# Altium schematic symbol library FPGAboard.SchLib: 46 symbols (part 1 of 2)
Pins are listed as number, name and electrical type; pins without a type are passive.

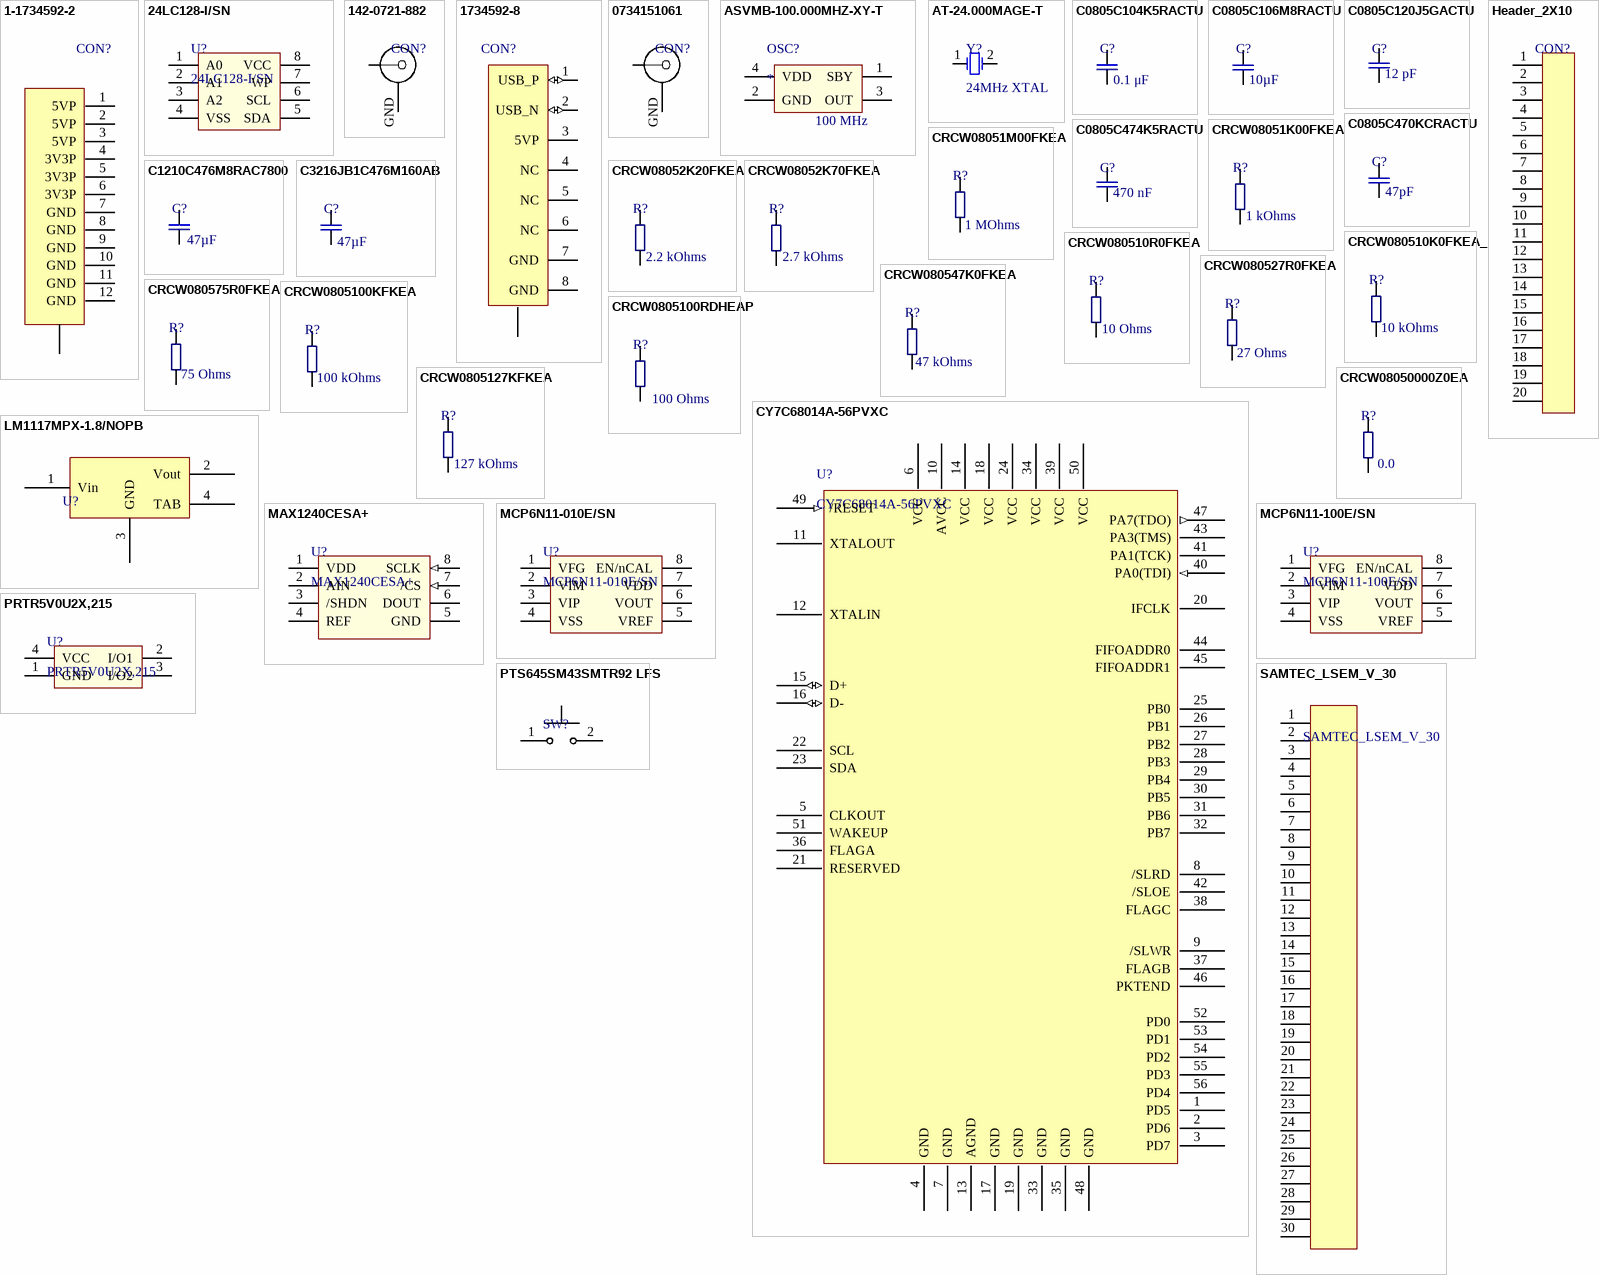
[diagram p0: symbols 1-1734592-2 to SAMTEC_LSEM_V_30]

## 1-1734592-2
designator CON?, comment el connector no está en la lista de suppliers en cantidades unitarias pero Digikey lo tiene  (value not drawn)
Power connector; Supplier Part Number 1: ​A100283CT-ND; Supplier 1: Digikey
footprint 1-1734592-2 (FPC-style ribbon connector)
pins: 1 5VP (power), 2 5VP (power), 3 5VP (power), 4 3V3P (power), 5 3V3P (power), 6 3V3P (power), 7 GND (power), 8 GND (power), 9 GND (power), 10 GND (power), 11 GND (power), 12 GND (power), GND (power)

## 24LC128-I/SN
designator U?
EEPROM Memory IC 128Kb (16K x 8) I²C 900ns 8-SOIC; Manufacturer: Microchip Technology; Memory Size: 128Kbit; EEPROM Memory Configuration: 16K x 8bit; Clock Frequency: 400kHz; Supply Voltage Min: 2.5V; Supply Voltage Max: 5.5V; Memory Case Style: SOIC; No. of Pins: 8; IC Interface Type: 2 Wire, I2C, Serial; SVHC: No SVHC (16-Jun-2014); Supplier 1: Digikey; Manufacturer Part Number: 24LC128-I/SN; Stock 1: 13753; Pricing 1: 1=0.56, 25=0.5356, 100=0.515 (USD); Operating Temperature Min: -40°C; Operating Temperature Max: 85°C; Packaging: Each; MSL: MSL 1 - Unlimited; ComponentLink1URL: https://datasheet.ciiva.com/14134/vl24lc128xx-e-14134817.pdf; ComponentLink1Description: https://datasheet.ciiva.com/14134/vl24lc128xx-e-14134817.pdf; ComponentLink2URL: https://datasheet.ciiva.com/20167/73-3656-20167716.pdf; ComponentLink2Description: https://datasheet.ciiva.com/20167/73-3656-20167716.pdf; ComponentLink3URL: https://datasheet.ciiva.com/16304/filehandler-aspxddocname-en011851-16304537.pdf; ComponentLink3Description: https://datasheet.ciiva.com/16304/filehandler-aspxddocname-en011851-16304537.pdf; ComponentLink4URL: https://datasheet.ciiva.com/1155/1688094-1155162.pdf; ComponentLink4Description: https://datasheet.ciiva.com/1155/1688094-1155162.pdf; ComponentLink5URL: https://datasheet.ciiva.com/4859/21191m-72643-4859610.pdf; ComponentLink5Description: https://datasheet.ciiva.com/4859/21191m-72643-4859610.pdf; ComponentLink6URL: https://datasheet.ciiva.com/16922/70045236-16922202.pdf; ComponentLink6Description: https://datasheet.ciiva.com/16922/70045236-16922202.pdf; ComponentLink7URL: https://datasheet.ciiva.com/17651/21191s-17651243.pdf; ComponentLink7Description: https://datasheet.ciiva.com/17651/21191s-17651243.pdf; Supplier Part Number 1: 24LC128-I/SN-ND
pins: 1 A0, 2 A1, 3 A2, 4 VSS, 5 SDA, 6 SCL, 7 WP, 8 VCC

## 142-0721-882
designator CON?  (value not drawn)
CONN SMA JACK STR 50OHM EDGE MNT; Manufacturer: Bel Stewart / Cinch Connectivity / Johnson; Manufacturer Part Number: 142-0721-882; Featured Product: SMA Connectors Connectivity Solutions; Connector Type: Jack, Female Socket; Contact Termination: Solder; Frequency - Max: 18GHz; Body Material: Brass; Body Finish: Gold; Center Contact Material: Beryllium Copper; Dielectric Material: Polytetrafluoroethylene (PTFE); Voltage Rating: 335V; Other Names: 142-0721-882-ND  J10225TR; Supplier 1: Digikey; Stock 1: 0; Pricing 1: 1=3.26, 25=3.0632 (USD); Standard Package: 475; Category: Connectors, Interconnects; Family: Coaxial Connectors (RF); Series: -; Packaging: Tape &amp; Reel (TR); Connector Style: SMA; Shield Termination: Solder; Impedance: 50 Ohm; Mounting Type: Board Edge, Cutout; Cable Group: -; Fastening Type: Threaded; Features: -; Housing Color: Gold; Ingress Protection: -; Center Contact Plating: Gold; Operating Temperature: -65°C ~ 165°C; Online Catalog: SMA; ComponentLink1URL: https://cinchconnectivity.com/OA_MEDIA/drawings/dr-1420721882.pdf; ComponentLink1Description: https://cinchconnectivity.com/OA_MEDIA/drawings/dr-1420721882.pdf; ComponentLink2URL: https://cinchconnectivity.com/OA_HTML/ibeCCtpItmDspRte.jsp?item=4250478; ComponentLink2Description: https://cinchconnectivity.com/OA_HTML/ibeCCtpItmDspRte.jsp?item=4250478; Supplier Part Number 1: J10225CT-ND
footprint SMA (Surface mount SMA)
pins: GND, IN

## 1734592-8
designator CON?
Supplier Part Number 1: ​A100281CT-ND; Supplier 1: Digikey
footprint 1734592-8
pins: 1 USB_P (io), 2 USB_N (io), 3 5VP (power), 4 NC, 5 NC, 6 NC, 7 GND (power), 8 GND (power), GND (power)

## 0734151061
designator CON?
CONN MCX RCPT STR 50OHM EDGE MNT; Manufacturer: Molex; Manufacturer Part Number: 0734151061; Featured Product: MCX RF Connectors; Connector Type: Receptacle, Female Socket; Contact Termination: Solder; Frequency - Max: 6GHz; Body Material: Brass; Body Finish: Gold; Center Contact Material: Beryllium Copper; Dielectric Material: Polytetrafluoroethylene (PTFE); Voltage Rating: 335V; Online Catalog: MCX, 73366 and 73415 Series; Other Names: 0734-15-1061  073415-1061  0734151061-ND  73415-1061  734151061  WM9351-2-ND  WM9351TR; Supplier 1: Digi-Key; Stock 1: 18986; Pricing 1: 1=5.45, 10=5.23, 25=4.7944, 50=4.5764, 100=4.3584, 250=3.8136, 500=3.7047 (USD); RoHS Information: 0734151061 Cert of Compliance; Standard Package: 1,000; Category: Connectors, Interconnects; Family: Coaxial Connectors (RF); Series: 73415; Packaging: Tape & Reel (TR); Connector Style: MCX; Shield Termination: Solder; Impedance: 50 Ohm; Mounting Type: Board Edge, Cutout; Cable Group: -; Fastening Type: Snap-On; Features: -; Housing Color: Gold; Ingress Protection: -; Center Contact Plating: Gold; Operating Temperature: -55°C ~ 155°C; ComponentLink1URL: https://datasheet.ciiva.com/7002/0734151061-rf-coax-connectors-7002503.pdf; ComponentLink1Description: https://datasheet.ciiva.com/7002/0734151061-rf-coax-connectors-7002503.pdf; ComponentLink2URL: https://datasheet.ciiva.com/7002/0734151061-rf-coax-connectors-7002509.pdf; ComponentLink2Description: https://datasheet.ciiva.com/7002/0734151061-rf-coax-connectors-7002509.pdf; Supplier Part Number 1: WM9351CT-ND
footprint MCX (CONN MCX RCPT STR 50OHM EDGE MNT)
pins: GND, IN

## ASVMB-100.000MHZ-XY-T
designator OSC?  Standard Frequency: 100 MHz
Manufacturer: Abracon; Manufacturer Part Number: ASVMB-100.000MHZ-XY-T; Rad Hard: No; Frequency Stability: ±10 ppm; Load Capacitance: 15 pF; Supplier 1: Digikey; Stock 1: 1752; Pricing 1: 1=2.51, 10=2.449, 50=2.332, 100=2.0405, 500=1.9822 (USD); Packaging: Tape & Reel; Package: 4QFN EP; Type: Silicon Oscillator; Category: SMD Crystal Oscillator; ComponentLink1URL: https://datasheet.ciiva.com/13167/asvmb-35165-13167142.pdf; ComponentLink1Description: https://datasheet.ciiva.com/13167/asvmb-35165-13167142.pdf; ComponentLink2URL: https://datasheet.ciiva.com/866/asvmb-866791.pdf; ComponentLink2Description: https://datasheet.ciiva.com/866/asvmb-866791.pdf; ComponentLink3URL: https://datasheet.ciiva.com/866/asvmb-866792.pdf; ComponentLink3Description: https://datasheet.ciiva.com/866/asvmb-866792.pdf; ComponentLink4URL: https://datasheet.ciiva.com/866/asvmb-866793.pdf; ComponentLink4Description: https://datasheet.ciiva.com/866/asvmb-866793.pdf; Supplier Part Number 1: 535-11246-1-ND
footprint ASVMB-100.000MHZ-XY-T
pins: 1 SBY, 2 GND (power), 3 OUT, 4 VDD (power)

## AT-24.000MAGE-T
designator Y?, comment 24MHz XTAL
24MHz ±30ppm Crystal 12pF 50 Ohm -40°C ~ 85°C AEC-Q200 Surface Mount HC49/US; Manufacturer: TXC; Manufacturer Part Number: AT-24.000MAGE-T; Frequency Stability: ±50ppm; ESR (Equivalent Series Resistance): 50 Ohm; Operating Mode: Fundamental; Online Catalog: AT Series; Other Names: 887-1613-6; Supplier 1: Digikey; Stock 1: 380; Pricing 1: 1=0.66, 10=0.55, 50=0.495, 100=0.44, 500=0.418 (USD); Standard Package: 1; Category: Crystals and Oscillators; Family: Crystals; Series: AT; Packaging: Digi-Reel®; Type: MHz Crystal; Frequency: 24MHz; Frequency Tolerance: ±30ppm; Load Capacitance: 12pF; Operating Temperature: -40°C ~ 85°C; Ratings: AEC-Q200; Mounting Type: Surface Mount; Package / Case: HC49/US; Size / Dimension: 0.449" L x 0.189" W (11.40mm x 4.80mm); Height: 0.161" (4.10mm); ComponentLink1URL: https://datasheet.ciiva.com/4946/at-automotive-3382-4946832.pdf; ComponentLink1Description: https://datasheet.ciiva.com/4946/at-automotive-3382-4946832.pdf; ComponentLink2URL: https://datasheet.ciiva.com/8047/1639142-8047989.pdf; ComponentLink2Description: https://datasheet.ciiva.com/8047/1639142-8047989.pdf; ComponentLink3URL: https://datasheet.ciiva.com/6728/at-automotive-6728858.pdf; ComponentLink3Description: https://datasheet.ciiva.com/6728/at-automotive-6728858.pdf; ComponentLink4URL: https://datasheet.ciiva.com/6728/at-automotive-6728859.pdf; ComponentLink4Description: https://datasheet.ciiva.com/6728/at-automotive-6728859.pdf; ComponentLink5URL: https://datasheet.ciiva.com/6728/at-automotive-6728860.pdf; ComponentLink5Description: https://datasheet.ciiva.com/6728/at-automotive-6728860.pdf; Supplier Part Number 1: 887-1613-1-ND
footprint HC-49S SMD 9C Series
simulation model XTAL (Spice Subcircuit)
pins: 1 OSC1, 2 OSC2

## C0805C104K5RACTU
designator C?  Capacitance: 0.1 μF
Manufacturer: Kemet; Manufacturer Part Number: C0805C104K5RAC-TU; Brand/Series: C Series; Dielectric Characteristic: X7R; Material, Element: Ceramic; Tolerance: -10, +10 %; Voltage, Rating: 50 VDC; Supplier 1: Digikey; Stock 1: 2895664; Pricing 1: 1=0.1, 10=0.053, 25=0.0388, 50=0.029, 100=0.0237, 250=0.0198, 500=0.0169, 1000=0.0133 (USD); Case Size: 0805 (2012 mm); Dimensions: 0.079" x 0.049" (2 x 1.25mm) LxW; Mounting Type: PCB; Packaging: Cut Tape; Termination: SMD; ComponentLink1URL: https://datasheet.ciiva.com/14589/70095383-14589048.pdf; ComponentLink1Description: https://datasheet.ciiva.com/14589/70095383-14589048.pdf; ComponentLink2URL: https://datasheet.ciiva.com/28682/1851736-28682232.pdf; ComponentLink2Description: https://datasheet.ciiva.com/28682/1851736-28682232.pdf; ComponentLink3URL: https://datasheet.ciiva.com/7842/1851736-7842539.pdf; ComponentLink3Description: https://datasheet.ciiva.com/7842/1851736-7842539.pdf; ComponentLink4URL: https://datasheet.ciiva.com/32431/slceramic-chip-condensers-e-32431755.pdf; ComponentLink4Description: https://datasheet.ciiva.com/32431/slceramic-chip-condensers-e-32431755.pdf; ComponentLink5URL: https://datasheet.ciiva.com/18410/70095383-18410815.pdf; ComponentLink5Description: https://datasheet.ciiva.com/18410/70095383-18410815.pdf; Supplier Part Number 1: 399-1170-1-ND
footprint 0805_X7R_KEMET
pins: 1, 2

## C0805C106M8RACTU
designator C?  Capacitance: 10µF  (hidden comment: C0805C106M8RACTU)
Manufacturer: Kemet; Capacitance Tolerance: ± 20%; Capacitor Case Style: 0805 [2012 Metric]; Dielectric Characteristic: X7R; Product Range: KEMET - C Series; SVHC: No SVHC (16-Jun-2014); Voltage Rating: 10V; Supplier 1: Digikey; Manufacturer Part Number: C0805C106M8RACTU; Stock 1: 17950; Pricing 1: 1=0.52, 10=0.362, 25=0.2972, 50=0.2536, 100=0.2174, 250=0.1811, 500=0.163, 1000=0.1377 (USD); Ceramic Capacitor Case: 0805 [2012 Metric]; MSL: MSL 1 - Unlimited; Operating Temperature Max: 125°C; Operating Temperature Min: -55°C; Packaging: Tape & Reel; ComponentLink1URL: https://datasheet.ciiva.com/5408/kem-c1002-x7r-smd-5408794.pdf; ComponentLink1Description: https://datasheet.ciiva.com/5408/kem-c1002-x7r-smd-5408794.pdf; Supplier Part Number 1: 399-7413-1-ND
footprint 0805_X7R_KEMET
pins: 1, 2

## C0805C120J5GACTU
designator C?  Capacitance: 12 pF
Manufacturer: KEMET; Manufacturer Part Number: C0805C120J5GACTU; Part # Aliases: C0805C120J5GAC7800; Case Height: 0.78 mm; Case Length: 2 mm; Dielectric: C0G (NP0); Case Width: 1.2 mm; Class: Class 1; Dissipation Factor DF: 0.1; Voltage Rating: 50 V; Tolerance: 5 %; Temperature Coefficient / Code: +/- 30 PPM / C; Type: SMD MLCC C0G 10 - 250 VDC Commercial Grade; Supplier 1: Digikey; Stock 1: 56795; Pricing 1: 1=0.12, 10=0.085, 100=0.0402, 500=0.0282, 1000=0.0233 (USD); Brand: Kemet; Case Code - in: 0805; Case Code - mm: 2012; Dimensions: 1.2 mm W x 2 mm L x 0.78 mm H; Lead Spacing: 0.75 mm; Factory Pack Quantity: 4000; Product Category: Multilayer Ceramic Capacitors MLCC - SMD/SMT; RoHS: Details; Voltage Rating DC: 50 V; Minimum Operating Temperature: - 55 C; Maximum Operating Temperature: + 125 C; Product: General Type MLCCs; Operating Temperature Range: - 55 C to + 125 C; Package / Case: 0805 (2012 metric); Packaging: Reel; Series: C0805C; Termination Style: SMD/SMT; ComponentLink1URL: https://datasheet.ciiva.com/144/docfinderpartnumber-c0805c120j5gactu-144980.pdf; ComponentLink1Description: https://datasheet.ciiva.com/144/docfinderpartnumber-c0805c120j5gactu-144980.pdf; ComponentLink2URL: https://datasheet.ciiva.com/11463/kem-c1003-c0g-smd-11463493.pdf; ComponentLink2Description: https://datasheet.ciiva.com/11463/kem-c1003-c0g-smd-11463493.pdf; ComponentLink3URL: https://datasheet.ciiva.com/18193/getdatasheetpartid-179336-18193526.pdf; ComponentLink3Description: https://datasheet.ciiva.com/18193/getdatasheetpartid-179336-18193526.pdf; ComponentLink4URL: https://datasheet.ciiva.com/5418/kem-c1003-c0g-smd-356956-5418089.pdf; ComponentLink4Description: https://datasheet.ciiva.com/5418/kem-c1003-c0g-smd-356956-5418089.pdf; ComponentLink5URL: https://datasheet.ciiva.com/6136/1732692-6136713.pdf; ComponentLink5Description: https://datasheet.ciiva.com/6136/1732692-6136713.pdf; ComponentLink6URL: https://datasheet.ciiva.com/7842/1732692-7842203.pdf; ComponentLink6Description: https://datasheet.ciiva.com/7842/1732692-7842203.pdf; ComponentLink7URL: https://datasheet.ciiva.com/7842/1732692-7842204.pdf; ComponentLink7Description: https://datasheet.ciiva.com/7842/1732692-7842204.pdf; ComponentLink8URL: https://datasheet.ciiva.com/14586/70095383-14586716.pdf; ComponentLink8Description: https://datasheet.ciiva.com/14586/70095383-14586716.pdf; ComponentLink9URL: https://datasheet.ciiva.com/28696/1789732-28696013.pdf; ComponentLink9Description: https://datasheet.ciiva.com/28696/1789732-28696013.pdf; Supplier Part Number 1: 399-1110-1-ND
footprint 0805_X7R_KEMET
pins: 1, 2

## C0805C470KCRACTU
designator C?  Capacitance: 47pF
Manufacturer: Kemet; Manufacturer Part Number: C0805C470KCRACTU; Product Training Modules: Capacitor Basics- Typical Uses for Capacitors; Tolerance: ±10%; Voltage - Rated: 500V; Temperature Coefficient: X7R; Online Catalog: X7R Dielectric High Voltage; Other Names: 399-7158-6; Supplier 1: Digikey; Stock 1: 5972; Pricing 1: 1=0.38, 10=0.266, 25=0.218, 50=0.186, 100=0.1594, 250=0.1328, 500=0.1195, 1000=0.101 (USD); Standard Package: 1; Category: Capacitors; Family: Ceramic Capacitors; Series: C; Packaging: Digi-Reel®; Mounting Type: Surface Mount, MLCC; Operating Temperature: -55°C ~ 125°C; Applications: SMPS Filtering; Ratings: -; Package / Case: 0805 (2012 Metric); Size / Dimension: 0.079" L x 0.049" W (2.00mm x 1.25mm); Height - Seated (Max): -; Thickness (Max): 0.055" (1.40mm); Lead Spacing: -; Features: High Voltage; Lead Style: -; ComponentLink1URL: http://www.kemet.com/docfinder?Partnumber=C0805C470KCRACTU; ComponentLink1Description: http://www.kemet.com/docfinder?Partnumber=C0805C470KCRACTU; Supplier Part Number 1: 399-7158-1-ND
footprint 0805_X7R_KEMET
pins: 1, 2

## C0805C474K5RACTU
designator C?  Capacitance - nF: 470 nF
Manufacturer: KEMET; Manufacturer Part Number: C0805C474K5RACTU; Part # Aliases: C0805C474K5RAC7800; Capacitance: 0.47 uF; Capacitance - pF: 470000 pF; Case Height: 1 mm; Dielectric: X7R; Case Length: 2 mm; Case Width: 1.2 mm; Class: Class 1; Voltage Rating: 50 V; Tolerance: 10 %; Temperature Coefficient / Code: +/- 15 %; Type: SMD MLCC X7R 6.3 - 250 VDC Commerical Grade; Supplier 1: Digikey; Stock 1: 94831; Pricing 1: 1=0.28, 10=0.193, 100=0.1092, 500=0.0771, 1000=0.0675 (USD); Brand: Kemet; Case Code - in: 0805; Case Code - mm: 2012; Dimensions: 1.2 mm W x 2 mm L x 1 mm H; Factory Pack Quantity: 2500; Product Category: Multilayer Ceramic Capacitors MLCC - SMD/SMT; RoHS: Details; Voltage Rating DC: 50 V; Minimum Operating Temperature: - 55 C; Maximum Operating Temperature: + 125 C; Product: General Type MLCCs; Operating Temperature Range: - 55 C to + 125 C; Package / Case: 0805 (2012 metric); Packaging: Reel; Series: C0805C; Termination Style: SMD/SMT; ComponentLink1URL: https://datasheet.ciiva.com/7842/1851736-7842613.pdf; ComponentLink1Description: https://datasheet.ciiva.com/7842/1851736-7842613.pdf; ComponentLink2URL: https://datasheet.ciiva.com/28688/1851736-28688678.pdf; ComponentLink2Description: https://datasheet.ciiva.com/28688/1851736-28688678.pdf; ComponentLink3URL: https://datasheet.ciiva.com/6126/kem-c1002-x7r-smd-6126343.pdf; ComponentLink3Description: https://datasheet.ciiva.com/6126/kem-c1002-x7r-smd-6126343.pdf; ComponentLink4URL: https://datasheet.ciiva.com/28614/1918693-28614762.pdf; ComponentLink4Description: https://datasheet.ciiva.com/28614/1918693-28614762.pdf; ComponentLink5URL: https://datasheet.ciiva.com/5411/kem-c1002-x7r-smd-5411451.pdf; ComponentLink5Description: https://datasheet.ciiva.com/5411/kem-c1002-x7r-smd-5411451.pdf; ComponentLink6URL: https://datasheet.ciiva.com/14604/70095383-14604428.pdf; ComponentLink6Description: https://datasheet.ciiva.com/14604/70095383-14604428.pdf; ComponentLink7URL: https://datasheet.ciiva.com/14589/70095383-14589439.pdf; ComponentLink7Description: https://datasheet.ciiva.com/14589/70095383-14589439.pdf; Supplier Part Number 1: 399-8100-1-ND
footprint 0805_X7R_KEMET
pins: 1, 2

## C1210C476M8RAC7800
designator C?  Capacitance: 47µF
Manufacturer: Kemet; Manufacturer Part Number: C1210C476M8RAC7800; Tolerance: ±20%; Voltage - Rated: 10V; Temperature Coefficient: X7R; Supplier 1: Digikey; Stock 1: 9455; Pricing 1: 1=1.47, 10=1.159, 25=1.0628, 50=1.0046, 100=0.8694, 250=0.7728, 500=0.6569 (USD); Category: Capacitors; Family: Ceramic Capacitors; Series: C; Packaging: Tape &amp; Reel (TR); Mounting Type: Surface Mount, MLCC; Operating Temperature: -55°C ~ 125°C; Applications: General Purpose; Ratings: -; Package / Case: 1210 (3225 Metric); Size / Dimension: 0.126" L x 0.098" W (3.20mm x 2.50mm); Height - Seated (Max): -; Thickness (Max): 0.110" (2.80mm); Lead Spacing: -; Features: -; Lead Style: -; ComponentLink1URL: http://www.alliedelec.com/m/d/51f554c3dd800f51434b811e71a34895.pdf; ComponentLink1Description: http://www.alliedelec.com/m/d/51f554c3dd800f51434b811e71a34895.pdf; Supplier Part Number 1: 399-12072-1-ND
footprint 1210_X7R_KEMET_above4.7uF
pins: 1, 2

## C3216JB1C476M160AB
designator C?  Capacitance: 47µF  (hidden comment: C3216JB1C476M160AB)
Manufacturer: TDK; Product Training Modules: C Series General Applications SEAT, CCV, and TVCL Design Tools Guide to Replacing an Electrolytic Capacitor with an MLCC; Featured Product: CH and JB Temperature Coefficient Capacitors; EDA / CAD Models: Download from Accelerated Designs; Tolerance: ±20%; Voltage - Rated: 16V; Temperature Coefficient: JB; Online Catalog: C Series, General Purpose; Other Names: 445-11695-1; Supplier 1: Digikey; Manufacturer Part Number: C3216JB1C476M160AB; Stock 1: 22642; Pricing 1: 1=1.01, 10=0.797, 25=0.7304, 50=0.6906, 100=0.5977, 250=0.5313, 500=0.4516, 1000=0.3985 (USD); RoHS Information: RoHS Certificate-MLCC; Standard Package: 1; Family: Ceramic Capacitors; Series: C; Packaging: Cut Tape (CT); Mounting Type: Surface Mount, MLCC; Operating Temperature: -25°C ~ 85°C; Applications: General Purpose; Package / Case: 1206 (3216 Metric); Size / Dimension: 0.126" L x 0.063" W (3.20mm x 1.60mm); Thickness (Max): 0.069" (1.75mm); ComponentLink1Description: http://www.mouser.com/ds/2/400/lcc_commercial_general_en-837201.pdf; ComponentLink2URL: http://www.tdk.com/pdf/TDKMLCCCapRange.pdf; ComponentLink2Description: http://www.tdk.com/pdf/TDKMLCCCapRange.pdf; ComponentLink3URL: http://product.tdk.com/en/catalog/datasheets/mlcc_commercial_general_en.pdf; ComponentLink3Description: http://product.tdk.com/en/catalog/datasheets/mlcc_commercial_general_en.pdf; Supplier Part Number 1: 445-11695-1-ND; Category: Capacitors; ComponentLink1URL: http://www.mouser.com/ds/2/400/lcc_commercial_general_en-837201.pdf
footprint C3216JB1C476M160AB
pins: 1, 2

## CRCW08051K00FKEA
designator R?  Resistance: 1 kOhms  (hidden comment: CRCW08051K00FKEA)
RES SMD 1K OHM 1% 1/8W 0805; Manufacturer: Vishay / Dale; Part # Aliases: CRCW08051001FKEA; Power Rating: 125 mW (1/8 W); Temperature Coefficient: 100 PPM / K; Voltage Rating: 150 V; Case Height: 0.45 mm; Case Length: 2 mm; Case Width: 1.25 mm; Unit Weight: 0.000194 oz; Supplier 1: Digikey; Manufacturer Part Number: CRCW08051K00FKEA; Stock 1: 0; Pricing 1: 1=0.1, 10=0.046, 100=0.0187, 1000=0.0084, 2500=0.0073 (USD); Product Category: Thick Film Resistors - SMD; RoHS: Details; Brand: Vishay / Dale; Tolerance: 1 %; Case Code - in: 0805; Case Code - mm: 2012; Operating Temperature Range: - 55 C to + 155 C; Package / Case: 0805 (2012 metric); Packaging: Reel; Product: Thick Film Resistors SMD; Series: CRCW; Factory Pack Quantity: 5000; ComponentLink1URL: https://datasheet.ciiva.com/11808/0900766b80d98b26-11808530.pdf; ComponentLink1Description: https://datasheet.ciiva.com/11808/0900766b80d98b26-11808530.pdf; ComponentLink2URL: https://datasheet.ciiva.com/46381/1697337-46381606.pdf; ComponentLink2Description: https://datasheet.ciiva.com/46381/1697337-46381606.pdf; ComponentLink3URL: https://datasheet.ciiva.com/3258/dcrcwe3-3258215.pdf; ComponentLink3Description: https://datasheet.ciiva.com/3258/dcrcwe3-3258215.pdf; ComponentLink4URL: https://datasheet.ciiva.com/3258/dcrcwe3-3258216.pdf; ComponentLink4Description: https://datasheet.ciiva.com/3258/dcrcwe3-3258216.pdf; ComponentLink5URL: https://datasheet.ciiva.com/26312/fld-crcw-e3-data-en-26312922.pdf; ComponentLink5Description: https://datasheet.ciiva.com/26312/fld-crcw-e3-data-en-26312922.pdf; ComponentLink6URL: https://datasheet.ciiva.com/46441/1720486-46441626.pdf; ComponentLink6Description: https://datasheet.ciiva.com/46441/1720486-46441626.pdf; ComponentLink7URL: https://datasheet.ciiva.com/16213/dcrcwe3-16213643.pdf; ComponentLink7Description: https://datasheet.ciiva.com/16213/dcrcwe3-16213643.pdf; ComponentLink8URL: https://datasheet.ciiva.com/17204/dcrcwe3-17204396.pdf; ComponentLink8Description: https://datasheet.ciiva.com/17204/dcrcwe3-17204396.pdf; Supplier Part Number 1: 541-1.00KCCT-ND
footprint CRCW0805_VISHAY
pins: 1, 2

## CRCW08051M00FKEA
designator R?  Resistance: 1 MOhms  (hidden comment: CRCW08051M00FKEA)
Manufacturer: Vishay; Brand: Vishay / Dale; Power Rating: 125 mW (1/8 W); Tolerance: 1 %; Temperature Coefficient: 100 PPM / K; Voltage Rating: 150 V; Case Height: 0.45 mm; Case Length: 2 mm; Case Width: 1.25 mm; Unit Weight: 0.000194 oz; Supplier 1: Digikey; Manufacturer Part Number: CRCW08051M00FKEA; Stock 1: 17398; Pricing 1: 1=0.1, 10=0.042, 25=0.0304, 50=0.0232, 100=0.017, 250=0.013, 500=0.0104, 1000=0.0077 (USD); Product Category: Thick Film Resistors - SMD; RoHS: Details; Case Code - in: 0805; Case Code - mm: 2012; Operating Temperature Range: - 55 C to + 155 C; Package / Case: 0805 (2012 metric); Packaging: Reel; Product: Thick Film Resistors SMD; Series: CRCW; Factory Pack Quantity: 5000; ComponentLink1URL: https://datasheet.ciiva.com/7841/1720486-7841845.pdf; ComponentLink1Description: https://datasheet.ciiva.com/7841/1720486-7841845.pdf; ComponentLink2URL: https://datasheet.ciiva.com/16380/dcrcwe3-16380086.pdf; ComponentLink2Description: https://datasheet.ciiva.com/16380/dcrcwe3-16380086.pdf; ComponentLink3URL: https://datasheet.ciiva.com/11810/0900766b80d98b26-11810665.pdf; ComponentLink3Description: https://datasheet.ciiva.com/11810/0900766b80d98b26-11810665.pdf; ComponentLink4URL: https://datasheet.ciiva.com/16514/dcrcwe3-16514634.pdf; ComponentLink4Description: https://datasheet.ciiva.com/16514/dcrcwe3-16514634.pdf; ComponentLink5URL: https://datasheet.ciiva.com/16721/70201119-16721483.pdf; ComponentLink5Description: https://datasheet.ciiva.com/16721/70201119-16721483.pdf; ComponentLink6URL: https://datasheet.ciiva.com/7841/1697337-7841645.pdf; ComponentLink6Description: https://datasheet.ciiva.com/7841/1697337-7841645.pdf; Supplier Part Number 1: 541-1.00MCCT-ND
footprint CRCW0805_VISHAY
pins: 1, 2

## CRCW08052K20FKEA
designator R?  Resistance: 2.2 kOhms
Manufacturer: Vishay; Manufacturer Part Number: CRCW08052K20FKEA; Brand: Vishay / Dale; Tolerance: 1 %; Power Rating: 125 mW (1/8 W); Temperature Coefficient: 100 PPM / K; Voltage Rating: 150 V; Unit Weight: 0.000194 oz; Supplier 1: Digikey; Stock 1: 0; Pricing 1: 1=0.1, 10=0.046, 100=0.0187, 1000=0.0084, 2500=0.0073 (USD); Product Category: Thick Film Resistors - SMD; RoHS: Details; Case Code - in: 0805; Case Code - mm: 2012; Operating Temperature Range: - 55 C to + 155 C; Series: CRCW; Height: 0.45 mm; Length: 2 mm; Package / Case: 0805 (2012 metric); Packaging: Reel; Product: Thick Film Resistors SMD; Factory Pack Quantity: 5000; Termination Style: SMD/SMT; Width: 1.25 mm; ComponentLink1URL: https://datasheet.ciiva.com/11808/0900766b80d98b26-11808384.pdf; ComponentLink1Description: https://datasheet.ciiva.com/11808/0900766b80d98b26-11808384.pdf; ComponentLink2URL: https://datasheet.ciiva.com/5546/dcrcwe3-109170-5546726.pdf; ComponentLink2Description: https://datasheet.ciiva.com/5546/dcrcwe3-109170-5546726.pdf; ComponentLink3URL: https://datasheet.ciiva.com/17201/dcrcwe3-17201814.pdf; ComponentLink3Description: https://datasheet.ciiva.com/17201/dcrcwe3-17201814.pdf; ComponentLink4URL: https://datasheet.ciiva.com/7777/1697337-7777385.pdf; ComponentLink4Description: https://datasheet.ciiva.com/7777/1697337-7777385.pdf; ComponentLink5URL: https://datasheet.ciiva.com/16201/dcrcwe3-16201450.pdf; ComponentLink5Description: https://datasheet.ciiva.com/16201/dcrcwe3-16201450.pdf; ComponentLink6URL: https://datasheet.ciiva.com/7777/1720486-7777611.pdf; ComponentLink6Description: https://datasheet.ciiva.com/7777/1720486-7777611.pdf; ComponentLink7URL: https://datasheet.ciiva.com/16770/70201119-16770763.pdf; ComponentLink7Description: https://datasheet.ciiva.com/16770/70201119-16770763.pdf; ComponentLink8URL: https://datasheet.ciiva.com/2525/dcrcwe3-2525869.pdf; ComponentLink8Description: https://datasheet.ciiva.com/2525/dcrcwe3-2525869.pdf; ComponentLink9URL: https://datasheet.ciiva.com/2525/dcrcwe3-2525870.pdf; ComponentLink9Description: https://datasheet.ciiva.com/2525/dcrcwe3-2525870.pdf; ComponentLink10URL: https://datasheet.ciiva.com/3258/dcrcwe3-3258430.pdf; ComponentLink10Description: https://datasheet.ciiva.com/3258/dcrcwe3-3258430.pdf; ComponentLink11URL: https://datasheet.ciiva.com/2525/dcrcwe3-2525871.pdf; ComponentLink11Description: https://datasheet.ciiva.com/2525/dcrcwe3-2525871.pdf; ComponentLink12URL: https://datasheet.ciiva.com/3258/dcrcwe3-3258431.pdf; ComponentLink12Description: https://datasheet.ciiva.com/3258/dcrcwe3-3258431.pdf; Supplier Part Number 1: 541-2.20KCCT-ND
footprint CRCW0805_VISHAY
pins: 1, 2

## CRCW08052K70FKEA
designator R?  Resistance: 2.7 kOhms  (hidden comment: CRCW08052K70FKEA)
Manufacturer: Vishay; Brand: Vishay / Dale; Power Rating: 125 mW (1/8 W); Tolerance: 1 %; Temperature Coefficient: 100 PPM / K; Voltage Rating: 150 V; Case Height: 0.45 mm; Case Length: 2 mm; Case Width: 1.25 mm; Unit Weight: 0.000194 oz; Supplier 1: Digikey; Manufacturer Part Number: CRCW08052K70FKEA; Stock 1: 1283; Pricing 1: 1=0.1, 10=0.042, 25=0.0304, 50=0.0232, 100=0.017, 250=0.013, 500=0.0104, 1000=0.0077 (USD); Product Category: Thick Film Resistors - SMD; RoHS: Details; Case Code - in: 0805; Case Code - mm: 2012; Operating Temperature Range: - 55 C to + 155 C; Package / Case: 0805 (2012 metric); Packaging: Reel; Product: Thick Film Resistors SMD; Series: CRCW; Factory Pack Quantity: 5000; ComponentLink1URL: https://datasheet.ciiva.com/3258/dcrcwe3-3258453.pdf; ComponentLink1Description: https://datasheet.ciiva.com/3258/dcrcwe3-3258453.pdf; ComponentLink2URL: https://datasheet.ciiva.com/16764/70201119-16764422.pdf; ComponentLink2Description: https://datasheet.ciiva.com/16764/70201119-16764422.pdf; ComponentLink3URL: https://datasheet.ciiva.com/5543/dcrcwe3-109170-5543191.pdf; ComponentLink3Description: https://datasheet.ciiva.com/5543/dcrcwe3-109170-5543191.pdf; ComponentLink4URL: https://datasheet.ciiva.com/7841/1697337-7841655.pdf; ComponentLink4Description: https://datasheet.ciiva.com/7841/1697337-7841655.pdf; ComponentLink5URL: https://datasheet.ciiva.com/2467/dcrcwe3-2467242.pdf; ComponentLink5Description: https://datasheet.ciiva.com/2467/dcrcwe3-2467242.pdf; ComponentLink6URL: https://datasheet.ciiva.com/16435/dcrcwe3-16435914.pdf; ComponentLink6Description: https://datasheet.ciiva.com/16435/dcrcwe3-16435914.pdf; ComponentLink7URL: https://datasheet.ciiva.com/2467/dcrcwe3-2467243.pdf; ComponentLink7Description: https://datasheet.ciiva.com/2467/dcrcwe3-2467243.pdf; ComponentLink8URL: https://datasheet.ciiva.com/2467/dcrcwe3-2467244.pdf; ComponentLink8Description: https://datasheet.ciiva.com/2467/dcrcwe3-2467244.pdf; ComponentLink9URL: https://datasheet.ciiva.com/16853/dcrcwe3-16853084.pdf; ComponentLink9Description: https://datasheet.ciiva.com/16853/dcrcwe3-16853084.pdf; ComponentLink10URL: https://datasheet.ciiva.com/11809/0900766b80d98b26-11809102.pdf; ComponentLink10Description: https://datasheet.ciiva.com/11809/0900766b80d98b26-11809102.pdf; ComponentLink11URL: https://datasheet.ciiva.com/7841/1697337-7841887.pdf; ComponentLink11Description: https://datasheet.ciiva.com/7841/1697337-7841887.pdf; Supplier Part Number 1: 541-2.70KCCT-ND
footprint CRCW0805_VISHAY
pins: 1, 2

## CRCW080510K0FKEA_
designator R?  Resistance: 10 kOhms  (hidden comment: CRCW080510K0FKEA_)
Manufacturer: Vishay; Brand: Vishay / Dale; Power Rating: 125 mW (1/8 W); Tolerance: 1 %; Temperature Coefficient: 100 PPM / K; Voltage Rating: 150 V; Case Height: 0.45 mm; Case Length: 2 mm; Case Width: 1.25 mm; Unit Weight: 0.000194 oz; Supplier 1: Digikey; Manufacturer Part Number: CRCW080510K0FKEA; Stock 1: 0; Pricing 1: 1=0.1, 10=0.042, 25=0.0304, 50=0.0232, 100=0.017, 250=0.013, 500=0.0104, 1000=0.0077 (USD); Product Category: Thick Film Resistors - SMD; RoHS: Details; Case Code - in: 0805; Case Code - mm: 2012; Operating Temperature Range: - 55 C to + 155 C; Package / Case: 0805 (2012 metric); Packaging: Reel; Product: Thick Film Resistors SMD; Series: CRCW; Factory Pack Quantity: 5000; ComponentLink1URL: https://datasheet.ciiva.com/5547/dcrcwe3-109170-5547559.pdf; ComponentLink1Description: https://datasheet.ciiva.com/5547/dcrcwe3-109170-5547559.pdf; ComponentLink2URL: https://datasheet.ciiva.com/11808/0900766b80d98b26-11808216.pdf; ComponentLink2Description: https://datasheet.ciiva.com/11808/0900766b80d98b26-11808216.pdf; ComponentLink3URL: https://datasheet.ciiva.com/16719/70201119-16719082.pdf; ComponentLink3Description: https://datasheet.ciiva.com/16719/70201119-16719082.pdf; ComponentLink4URL: https://datasheet.ciiva.com/16514/dcrcwe3-16514907.pdf; ComponentLink4Description: https://datasheet.ciiva.com/16514/dcrcwe3-16514907.pdf; ComponentLink5URL: https://datasheet.ciiva.com/16883/dcrcwe3-16883708.pdf; ComponentLink5Description: https://datasheet.ciiva.com/16883/dcrcwe3-16883708.pdf; ComponentLink6URL: https://datasheet.ciiva.com/8337/dcrcwe3-8337773.pdf; ComponentLink6Description: https://datasheet.ciiva.com/8337/dcrcwe3-8337773.pdf; ComponentLink7URL: https://datasheet.ciiva.com/16755/70201119-16755389.pdf; ComponentLink7Description: https://datasheet.ciiva.com/16755/70201119-16755389.pdf; ComponentLink8URL: https://datasheet.ciiva.com/46394/1720486-46394381.pdf; ComponentLink8Description: https://datasheet.ciiva.com/46394/1720486-46394381.pdf; ComponentLink9URL: https://datasheet.ciiva.com/8337/dcrcwe3-8337774.pdf; ComponentLink9Description: https://datasheet.ciiva.com/8337/dcrcwe3-8337774.pdf; ComponentLink10URL: https://datasheet.ciiva.com/16199/dcrcwe3-16199086.pdf; ComponentLink10Description: https://datasheet.ciiva.com/16199/dcrcwe3-16199086.pdf; Supplier Part Number 1: 541-10.0KCCT-ND
footprint CRCW0805_VISHAY
pins: 1, 2

## CRCW080510R0FKEA
designator R?  Resistance: 10 Ohms
Manufacturer: Vishay; Manufacturer Part Number: CRCW080510R0FKEA; Brand: Vishay / Dale; Tolerance: 1 %; Power Rating: 125 mW (1/8 W); Temperature Coefficient: 100 PPM / K; Voltage Rating: 150 V; Unit Weight: 0.000194 oz; Supplier 1: Digikey; Stock 1: 2; Pricing 1: 1=0.1, 10=0.046, 100=0.0187, 1000=0.0084, 2500=0.0073 (USD); Product Category: Thick Film Resistors - SMD; RoHS: Details; Case Code - in: 0805; Case Code - mm: 2012; Operating Temperature Range: - 55 C to + 155 C; Series: CRCW; Height: 0.45 mm; Length: 2 mm; Package / Case: 0805 (2012 metric); Packaging: Reel; Product: Thick Film Resistors SMD; Factory Pack Quantity: 5000; Termination Style: SMD/SMT; Width: 1.25 mm; ComponentLink1URL: https://datasheet.ciiva.com/7107/smdpack-7107200.pdf; ComponentLink1Description: https://datasheet.ciiva.com/7107/smdpack-7107200.pdf; ComponentLink2URL: https://datasheet.ciiva.com/2467/dcrcwe3-2467173.pdf; ComponentLink2Description: https://datasheet.ciiva.com/2467/dcrcwe3-2467173.pdf; ComponentLink3URL: https://datasheet.ciiva.com/3258/dcrcwe3-3258037.pdf; ComponentLink3Description: https://datasheet.ciiva.com/3258/dcrcwe3-3258037.pdf; ComponentLink4URL: https://datasheet.ciiva.com/16720/70201119-16720437.pdf; ComponentLink4Description: https://datasheet.ciiva.com/16720/70201119-16720437.pdf; ComponentLink5URL: https://datasheet.ciiva.com/2467/dcrcwe3-2467174.pdf; ComponentLink5Description: https://datasheet.ciiva.com/2467/dcrcwe3-2467174.pdf; ComponentLink6URL: https://datasheet.ciiva.com/3258/dcrcwe3-3258038.pdf; ComponentLink6Description: https://datasheet.ciiva.com/3258/dcrcwe3-3258038.pdf; ComponentLink7URL: https://datasheet.ciiva.com/11808/0900766b80d98b26-11808710.pdf; ComponentLink7Description: https://datasheet.ciiva.com/11808/0900766b80d98b26-11808710.pdf; ComponentLink8URL: https://datasheet.ciiva.com/2467/dcrcwe3-2467175.pdf; ComponentLink8Description: https://datasheet.ciiva.com/2467/dcrcwe3-2467175.pdf; ComponentLink9URL: https://datasheet.ciiva.com/22673/1720486-22673127.pdf; ComponentLink9Description: https://datasheet.ciiva.com/22673/1720486-22673127.pdf; ComponentLink10URL: https://datasheet.ciiva.com/22673/1697337-22673081.pdf; ComponentLink10Description: https://datasheet.ciiva.com/22673/1697337-22673081.pdf; ComponentLink11URL: https://datasheet.ciiva.com/5541/dcrcwe3-109170-5541003.pdf; ComponentLink11Description: https://datasheet.ciiva.com/5541/dcrcwe3-109170-5541003.pdf; ComponentLink12URL: https://datasheet.ciiva.com/16289/dcrcwe3-16289579.pdf; ComponentLink12Description: https://datasheet.ciiva.com/16289/dcrcwe3-16289579.pdf; ComponentLink13URL: https://datasheet.ciiva.com/26314/fld-crcw-e3-data-en-26314637.pdf; ComponentLink13Description: https://datasheet.ciiva.com/26314/fld-crcw-e3-data-en-26314637.pdf; Supplier Part Number 1: 541-10.0CDKR-ND
footprint CRCW0805_VISHAY
pins: 1, 2

## CRCW080527R0FKEA
designator R?  Resistance: 27 Ohms  (hidden comment: CRCW080527R0FKEA)
Manufacturer: Vishay; Brand: Vishay / Dale; Power Rating: 125 mW (1/8 W); Tolerance: 1 %; Temperature Coefficient: 100 PPM / K; Voltage Rating: 150 V; Case Height: 0.45 mm; Case Length: 2 mm; Case Width: 1.25 mm; Unit Weight: 0.000194 oz; Supplier 1: Digikey; Manufacturer Part Number: CRCW080527R0FKEA; Stock 1: 96; Pricing 1: 1=0.1, 10=0.042, 25=0.0304, 50=0.0232, 100=0.017, 250=0.013, 500=0.0104, 1000=0.0077 (USD); Product Category: Thick Film Resistors - SMD; RoHS: Details; Case Code - in: 0805; Case Code - mm: 2012; Operating Temperature Range: - 55 C to + 155 C; Package / Case: 0805 (2012 metric); Packaging: Reel; Product: Thick Film Resistors SMD; Series: CRCW; Factory Pack Quantity: 5000; ComponentLink1URL: https://datasheet.ciiva.com/7672/1697337-7672981.pdf; ComponentLink1Description: https://datasheet.ciiva.com/7672/1697337-7672981.pdf; ComponentLink2URL: https://datasheet.ciiva.com/16761/70201119-16761029.pdf; ComponentLink2Description: https://datasheet.ciiva.com/16761/70201119-16761029.pdf; ComponentLink3URL: https://datasheet.ciiva.com/2467/dcrcwe3-2467494.pdf; ComponentLink3Description: https://datasheet.ciiva.com/2467/dcrcwe3-2467494.pdf; ComponentLink4URL: https://datasheet.ciiva.com/7672/1697337-7672982.pdf; ComponentLink4Description: https://datasheet.ciiva.com/7672/1697337-7672982.pdf; ComponentLink5URL: https://datasheet.ciiva.com/22675/1847332-22675094.pdf; ComponentLink5Description: https://datasheet.ciiva.com/22675/1847332-22675094.pdf; ComponentLink6URL: https://datasheet.ciiva.com/2467/dcrcwe3-2467495.pdf; ComponentLink6Description: https://datasheet.ciiva.com/2467/dcrcwe3-2467495.pdf; ComponentLink7URL: https://datasheet.ciiva.com/2467/dcrcwe3-2467496.pdf; ComponentLink7Description: https://datasheet.ciiva.com/2467/dcrcwe3-2467496.pdf; ComponentLink8URL: https://datasheet.ciiva.com/5547/dcrcwe3-109170-5547145.pdf; ComponentLink8Description: https://datasheet.ciiva.com/5547/dcrcwe3-109170-5547145.pdf; ComponentLink9URL: https://datasheet.ciiva.com/16204/dcrcw-16204171.pdf; ComponentLink9Description: https://datasheet.ciiva.com/16204/dcrcw-16204171.pdf; ComponentLink10URL: https://datasheet.ciiva.com/26316/fld-crcw-e3-data-en-26316524.pdf; ComponentLink10Description: https://datasheet.ciiva.com/26316/fld-crcw-e3-data-en-26316524.pdf; ComponentLink11URL: https://datasheet.ciiva.com/11809/0900766b80d98b26-11809967.pdf; ComponentLink11Description: https://datasheet.ciiva.com/11809/0900766b80d98b26-11809967.pdf; ComponentLink12URL: https://datasheet.ciiva.com/22704/1697337-22704447.pdf; ComponentLink12Description: https://datasheet.ciiva.com/22704/1697337-22704447.pdf; Supplier Part Number 1: 541-27.0CCT-ND
footprint CRCW0805_VISHAY
pins: 1, 2

## CRCW080547K0FKEA
designator R?  Resistance: 47 kOhms  (hidden comment: CRCW080547K0FKEA)
Manufacturer: Vishay; Brand: Vishay / Dale; Tolerance: 1 %; Power Rating: 125 mW (1/8 W); Temperature Coefficient: 100 PPM / K; Voltage Rating: 150 V; Unit Weight: 0.000194 oz; Supplier 1: Digikey; Manufacturer Part Number: CRCW080547K0FKEA; Stock 1: 37370; Pricing 1: 1=0.1, 10=0.042, 25=0.0304, 50=0.0232, 100=0.017, 250=0.013, 500=0.0104, 1000=0.0077 (USD); Product Category: Thick Film Resistors - SMD; RoHS: Details; Case Code - in: 0805; Case Code - mm: 2012; Operating Temperature Range: - 55 C to + 155 C; Series: CRCW; Height: 0.45 mm; Length: 2 mm; Package / Case: 0805 (2012 metric); Packaging: Reel; Product: Thick Film Resistors SMD; Factory Pack Quantity: 5000; Termination Style: SMD/SMT; Width: 1.25 mm; ComponentLink1URL: https://datasheet.ciiva.com/16723/70201119-16723909.pdf; ComponentLink1Description: https://datasheet.ciiva.com/16723/70201119-16723909.pdf; ComponentLink2URL: https://datasheet.ciiva.com/2514/dcrcwe3-2514311.pdf; ComponentLink2Description: https://datasheet.ciiva.com/2514/dcrcwe3-2514311.pdf; ComponentLink3URL: https://datasheet.ciiva.com/2514/dcrcwe3-2514312.pdf; ComponentLink3Description: https://datasheet.ciiva.com/2514/dcrcwe3-2514312.pdf; ComponentLink4URL: https://datasheet.ciiva.com/16204/dcrcwe3-16204264.pdf; ComponentLink4Description: https://datasheet.ciiva.com/16204/dcrcwe3-16204264.pdf; ComponentLink5URL: https://datasheet.ciiva.com/26314/fld-crcw-e3-data-en-26314584.pdf; ComponentLink5Description: https://datasheet.ciiva.com/26314/fld-crcw-e3-data-en-26314584.pdf; ComponentLink6URL: https://datasheet.ciiva.com/7777/1720486-7777577.pdf; ComponentLink6Description: https://datasheet.ciiva.com/7777/1720486-7777577.pdf; ComponentLink7URL: https://datasheet.ciiva.com/9006/dcrcwe3-9006477.pdf; ComponentLink7Description: https://datasheet.ciiva.com/9006/dcrcwe3-9006477.pdf; ComponentLink8URL: https://datasheet.ciiva.com/11809/0900766b80d98b26-11809181.pdf; ComponentLink8Description: https://datasheet.ciiva.com/11809/0900766b80d98b26-11809181.pdf; ComponentLink9URL: https://datasheet.ciiva.com/17178/dcrcwe3-17178445.pdf; ComponentLink9Description: https://datasheet.ciiva.com/17178/dcrcwe3-17178445.pdf; ComponentLink10URL: https://datasheet.ciiva.com/7777/1697337-7777406.pdf; ComponentLink10Description: https://datasheet.ciiva.com/7777/1697337-7777406.pdf; Supplier Part Number 1: 541-47.0KCCT-ND
footprint CRCW0805_VISHAY
pins: 1, 2

## CRCW080575R0FKEA
designator R?  Resistance: 75 Ohms  (hidden comment: CRCW080575R0FKEA)
Manufacturer: Vishay; Brand: Vishay / Dale; Tolerance: 1 %; Power Rating: 125 mW (1/8 W); Temperature Coefficient: 100 PPM / K; Voltage Rating: 150 V; Unit Weight: 0.000194 oz; Supplier 1: Digikey; Manufacturer Part Number: CRCW080575R0FKEA; Stock 1: 7205; Pricing 1: 1=0.1, 10=0.042, 25=0.0304, 50=0.0232, 100=0.017, 250=0.013, 500=0.0104, 1000=0.0077 (USD); Product Category: Thick Film Resistors - SMD; RoHS: Details; Case Code - in: 0805; Case Code - mm: 2012; Operating Temperature Range: - 55 C to + 155 C; Series: CRCW; Height: 0.45 mm; Length: 2 mm; Package / Case: 0805 (2012 metric); Packaging: Reel; Product: Thick Film Resistors SMD; Factory Pack Quantity: 5000; Termination Style: SMD/SMT; Width: 1.25 mm; ComponentLink1URL: https://datasheet.ciiva.com/2495/dcrcwe3-2495665.pdf; ComponentLink1Description: https://datasheet.ciiva.com/2495/dcrcwe3-2495665.pdf; ComponentLink2URL: https://datasheet.ciiva.com/2495/dcrcwe3-2495666.pdf; ComponentLink2Description: https://datasheet.ciiva.com/2495/dcrcwe3-2495666.pdf; ComponentLink3URL: https://datasheet.ciiva.com/2495/dcrcwe3-2495667.pdf; ComponentLink3Description: https://datasheet.ciiva.com/2495/dcrcwe3-2495667.pdf; ComponentLink4URL: https://datasheet.ciiva.com/7673/1697337-7673495.pdf; ComponentLink4Description: https://datasheet.ciiva.com/7673/1697337-7673495.pdf; ComponentLink5URL: https://datasheet.ciiva.com/26316/fld-crcw-e3-data-en-26316535.pdf; ComponentLink5Description: https://datasheet.ciiva.com/26316/fld-crcw-e3-data-en-26316535.pdf; ComponentLink6URL: https://datasheet.ciiva.com/7673/1697337-7673369.pdf; ComponentLink6Description: https://datasheet.ciiva.com/7673/1697337-7673369.pdf; ComponentLink7URL: https://datasheet.ciiva.com/11811/0900766b80d98b26-11811307.pdf; ComponentLink7Description: https://datasheet.ciiva.com/11811/0900766b80d98b26-11811307.pdf; ComponentLink8URL: https://datasheet.ciiva.com/16763/70201119-16763292.pdf; ComponentLink8Description: https://datasheet.ciiva.com/16763/70201119-16763292.pdf; ComponentLink9URL: https://datasheet.ciiva.com/5542/dcrcwe3-109170-5542910.pdf; ComponentLink9Description: https://datasheet.ciiva.com/5542/dcrcwe3-109170-5542910.pdf; Supplier Part Number 1: 541-75.0CCT-ND
footprint CRCW0805_VISHAY
pins: 1, 2

## CRCW0805100KFKEA
designator R?  Resistance: 100 kOhms  (hidden comment: CRCW0805100KFKEA)
Manufacturer: Vishay; Brand: Vishay / Dale; Tolerance: 1 %; Power Rating: 125 mW (1/8 W); Temperature Coefficient: 100 PPM / K; Voltage Rating: 150 V; Unit Weight: 0.000194 oz; Supplier 1: Digikey; Manufacturer Part Number: CRCW0805100KFKEA; Stock 1: 147880; Pricing 1: 1=0.1, 10=0.042, 25=0.0304, 50=0.0232, 100=0.017, 250=0.013, 500=0.0104, 1000=0.0077 (USD); Product Category: Thick Film Resistors - SMD; RoHS: Details; Case Code - in: 0805; Case Code - mm: 2012; Operating Temperature Range: - 55 C to + 155 C; Series: CRCW; Height: 0.45 mm; Length: 2 mm; Package / Case: 0805 (2012 metric); Packaging: Reel; Product: Thick Film Resistors SMD; Factory Pack Quantity: 5000; Termination Style: SMD/SMT; Width: 1.25 mm; ComponentLink1URL: https://datasheet.ciiva.com/11809/0900766b80d98b26-11809057.pdf; ComponentLink1Description: https://datasheet.ciiva.com/11809/0900766b80d98b26-11809057.pdf; ComponentLink2URL: https://datasheet.ciiva.com/7777/1697337-7777349.pdf; ComponentLink2Description: https://datasheet.ciiva.com/7777/1697337-7777349.pdf; ComponentLink3URL: https://datasheet.ciiva.com/3258/dcrcwe3-3258006.pdf; ComponentLink3Description: https://datasheet.ciiva.com/3258/dcrcwe3-3258006.pdf; ComponentLink4URL: https://datasheet.ciiva.com/16754/70201119-16754822.pdf; ComponentLink4Description: https://datasheet.ciiva.com/16754/70201119-16754822.pdf; ComponentLink5URL: https://datasheet.ciiva.com/8337/dcrcwe3-8337738.pdf; ComponentLink5Description: https://datasheet.ciiva.com/8337/dcrcwe3-8337738.pdf; ComponentLink6URL: https://datasheet.ciiva.com/16341/dcrcwe3-16341530.pdf; ComponentLink6Description: https://datasheet.ciiva.com/16341/dcrcwe3-16341530.pdf; ComponentLink7URL: https://datasheet.ciiva.com/16852/dcrcwe3-16852810.pdf; ComponentLink7Description: https://datasheet.ciiva.com/16852/dcrcwe3-16852810.pdf; ComponentLink8URL: https://datasheet.ciiva.com/16720/70201119-16720891.pdf; ComponentLink8Description: https://datasheet.ciiva.com/16720/70201119-16720891.pdf; ComponentLink9URL: https://datasheet.ciiva.com/7777/1720486-7777565.pdf; ComponentLink9Description: https://datasheet.ciiva.com/7777/1720486-7777565.pdf; Supplier Part Number 1: 541-100KCCT-ND
footprint CRCW0805_VISHAY
pins: 1, 2

## CRCW0805100RDHEAP
designator R?  Resistance (Ohms): 100 Ohms  (hidden comment: CRCW0805100RDHEAP)
RES SMD 100 OHM 0.5% 1/8W 0805; Manufacturer: Vishay Dale; EDA / CAD Models: Download from Accelerated Designs; Power (Watts): 0.125W, 1/8W; Temperature Coefficient: ±50ppm/°C; Online Catalog: CRCW-P e3 Series; Other Names: 541-100AZCT; Supplier 1: Digi-Key; Manufacturer Part Number: CRCW0805100RDHEAP; Stock 1: 4321; Pricing 1: 1=0.31, 10=0.266, 100=0.1041, 1000=0.0436, 2500=0.0399 (USD); Standard Package: 1; Category: Resistors; Family: Chip Resistor - Surface Mount; Series: CRCW-P; Packaging: Cut Tape (CT); Tolerance: ±0.5%; Composition: Thick Film; Features: Automotive AEC-Q200; Operating Temperature: -55°C ~ 155°C; Package / Case: 0805 (2012 Metric); Supplier Device Package: 0805 (2012 Metric); Size / Dimension: 0.079" L x 0.049" W (2.00mm x 1.25mm); Height: 0.020" (0.50mm); Number of Terminations: 2; ComponentLink1URL: https://datasheet.ciiva.com/6566/dcrcwpe3-6566555.pdf; ComponentLink1Description: https://datasheet.ciiva.com/6566/dcrcwpe3-6566555.pdf; ComponentLink2URL: https://datasheet.ciiva.com/6566/dcrcwpe3-6566556.pdf; ComponentLink2Description: https://datasheet.ciiva.com/6566/dcrcwpe3-6566556.pdf; ComponentLink3URL: https://datasheet.ciiva.com/6566/dcrcwpe3-6566558.pdf; ComponentLink3Description: https://datasheet.ciiva.com/6566/dcrcwpe3-6566558.pdf; Supplier Part Number 1: 541-100AZCT-ND
footprint CRCW0805_VISHAY
pins: 1, 2

## CRCW0805127KFKEA
designator R?  Resistance: 127 kOhms
Manufacturer: Vishay; Manufacturer Part Number: CRCW0805127KFKEA; Brand: Vishay / Dale; Power Rating: 125 mW (1/8 W); Tolerance: 1 %; Temperature Coefficient: 100 PPM / K; Voltage Rating: 150 V; Case Height: 0.45 mm; Case Length: 2 mm; Case Width: 1.25 mm; Unit Weight: 0.000194 oz; Supplier 1: Digikey; Stock 1: 10656; Pricing 1: 1=0.1, 10=0.046, 100=0.0187, 1000=0.0084, 2500=0.0073 (USD); Product Category: Thick Film Resistors - SMD; RoHS: Details; Case Code - in: 0805; Case Code - mm: 2012; Operating Temperature Range: - 55 C to + 155 C; Package / Case: 0805 (2012 metric); Packaging: Reel; Product: Thick Film Resistors SMD; Series: CRCW; Factory Pack Quantity: 5000; ComponentLink1URL: https://datasheet.ciiva.com/22708/1697337-22708087.pdf; ComponentLink1Description: https://datasheet.ciiva.com/22708/1697337-22708087.pdf; ComponentLink2URL: https://datasheet.ciiva.com/7714/1697337-7714264.pdf; ComponentLink2Description: https://datasheet.ciiva.com/7714/1697337-7714264.pdf; ComponentLink3URL: https://datasheet.ciiva.com/7714/1697337-7714265.pdf; ComponentLink3Description: https://datasheet.ciiva.com/7714/1697337-7714265.pdf; ComponentLink4URL: https://datasheet.ciiva.com/7725/66915-7725786.pdf; ComponentLink4Description: https://datasheet.ciiva.com/7725/66915-7725786.pdf; ComponentLink5URL: https://datasheet.ciiva.com/22675/1847332-22675882.pdf; ComponentLink5Description: https://datasheet.ciiva.com/22675/1847332-22675882.pdf; ComponentLink6URL: https://datasheet.ciiva.com/2495/dcrcwe3-2495707.pdf; ComponentLink6Description: https://datasheet.ciiva.com/2495/dcrcwe3-2495707.pdf; ComponentLink7URL: https://datasheet.ciiva.com/2495/dcrcwe3-2495708.pdf; ComponentLink7Description: https://datasheet.ciiva.com/2495/dcrcwe3-2495708.pdf; ComponentLink8URL: https://datasheet.ciiva.com/2495/dcrcwe3-2495709.pdf; ComponentLink8Description: https://datasheet.ciiva.com/2495/dcrcwe3-2495709.pdf; ComponentLink9URL: https://datasheet.ciiva.com/3258/dcrcwe3-3258077.pdf; ComponentLink9Description: https://datasheet.ciiva.com/3258/dcrcwe3-3258077.pdf; ComponentLink10URL: https://datasheet.ciiva.com/16435/dcrcwe3-16435949.pdf; ComponentLink10Description: https://datasheet.ciiva.com/16435/dcrcwe3-16435949.pdf; ComponentLink11URL: https://datasheet.ciiva.com/3258/dcrcwe3-3258078.pdf; ComponentLink11Description: https://datasheet.ciiva.com/3258/dcrcwe3-3258078.pdf; Supplier Part Number 1: 541-127KCCT-ND
footprint CRCW0805_VISHAY
pins: 1, 2